# Altium footprint library SDR1006.PcbLib: 1 footprints
Each footprint in its own frame and in the unit in brackets; x right, y up, seen from the top. Pads: shape width x height; smd on the part's side, far side on the other; paste and mask are expansions set on the pad; w line width, h text height; cw(c..) or ccw(c..) is an arc to the next point about the centre after c.
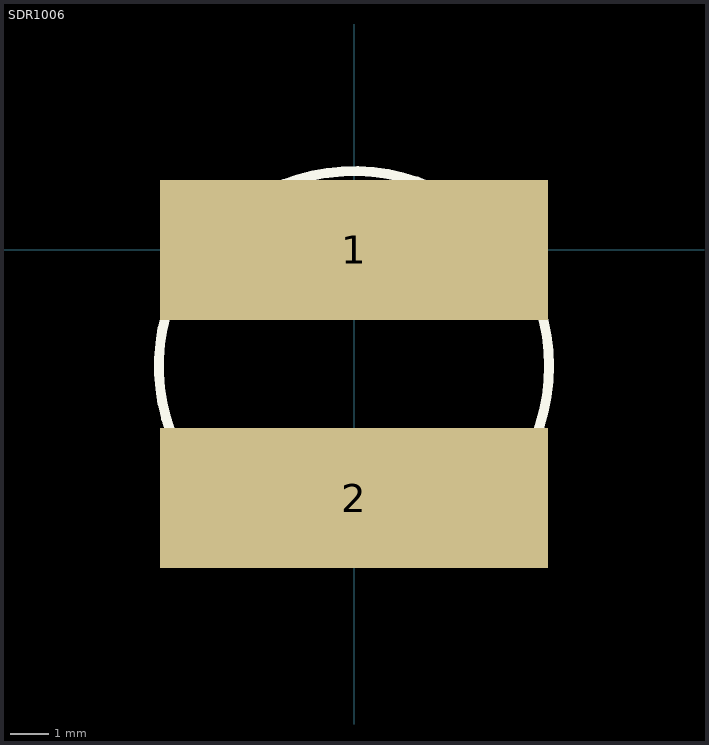
[diagram p0: the footprint, top view; thin cyan lines are the x and y axes]

## SDR1006 [mil]
pads (2):
  rect 394x142 smd: 1(0,0) 2(0,-252)
Top Overlay:
  circle w10: c0,-118 r198
3D body: height -20, standoff -248.35, extent -193,-318.91 192.83,66.91